# Altium integrated library ST Discrete BJT.IntLib: 9 symbols
Pins are listed as number, name and electrical type; pins without a type are passive.

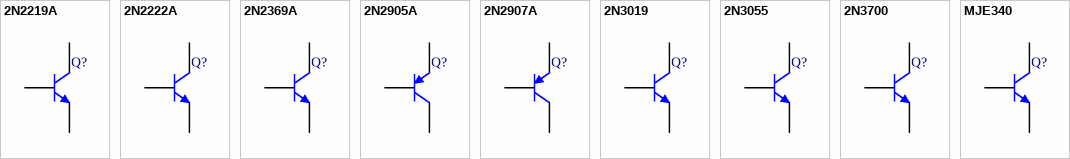
[diagram p0: symbols 2N2219A to MJE340]

## 2N2219A
designator Q?
High Speed Switches; Published: 8-Jun-2000; LatestRevisionDate: 11-Dec-2002; LatestRevisionNote: Sim Port Map correction; DatasheetDocument: Jun-1999; PackageReference: TO-39; Publisher: Altium Limited; ComponentLink1Description: Manufacturer Link; ComponentLink1URL: http://www.st.com/; ComponentLink2Description: Datasheet; ComponentLink2URL: http://www.st.com/stonline/products/literature/ds/9288/2n2219a.pdf
footprint TO-39 (Can; 3 Leads; Pin Circle Dia. 5.08 mm; Lead Dia. 0.49 mm (max))
simulation model 2N2219A (NPN)
signal-integrity model 2N2219A
pins: 1 B, 2 C, 3 E

## 2N2222A
designator Q?
High Speed Switches; Published: 8-Jun-2000; LatestRevisionDate: 11-Dec-2002; LatestRevisionNote: Sim Port Map correction; DatasheetDocument: Jun-1999; PackageReference: TO-18; Publisher: Altium Limited; ComponentLink1Description: Manufacturer Link; ComponentLink1URL: http://www.st.com/; ComponentLink2Description: Datasheet; ComponentLink2URL: http://www.st.com/stonline/products/literature/ds/9288/2n2219a.pdf
footprint TO-18 (Can; 3 Leads; Pin Circle Dia. 2.54 mm; Lead Dia. 0.49 mm (max))
simulation model 2N2222A (NPN)
signal-integrity model 2N2222A
pins: 1 B, 2 C, 3 E

## 2N2369A
designator Q?
High Speed Saturated Switch; Note: Pin number assigned in accordance with manufactures conventions.; Published: 8-Jun-2000; LatestRevisionDate: 11-Dec-2002; LatestRevisionNote: Sim Port Map correction; DatasheetDocument: Nov-1988; PackageReference: TO-18; Publisher: Altium Limited; ComponentLink1Description: Manufacturer Link; ComponentLink1URL: http://www.st.com/
footprint TO-18 (Can; 3 Leads; Pin Circle Dia. 2.54 mm; Lead Dia. 0.49 mm (max))
simulation model 2N2369A (NPN)
signal-integrity model 2N2369A
pins: 1 B, 2 C, 3 E

## 2N2905A
designator Q?
General Purpose Amplifier and Switche; Published: 8-Jun-2000; LatestRevisionDate: 11-Dec-2002; LatestRevisionNote: Sim Port Map correction; DatasheetDocument: Nov-1997; PackageReference: TO-39; Publisher: Altium Limited; ComponentLink1Description: Manufacturer Link; ComponentLink1URL: http://www.st.com/; ComponentLink2Description: Datasheet; ComponentLink2URL: http://www.st.com/stonline/products/literature/ds/9037/2n2905a.pdf
footprint TO-39 (Can; 3 Leads; Pin Circle Dia. 5.08 mm; Lead Dia. 0.49 mm (max))
simulation model 2N2905A (PNP)
signal-integrity model 2N2905A
pins: 1 B, 2 C, 3 E

## 2N2907A
designator Q?
General Purpose Amplifier and Switche; Published: 8-Jun-2000; LatestRevisionDate: 11-Dec-2002; LatestRevisionNote: Sim Port Map correction; DatasheetDocument: Nov-1997; PackageReference: TO-18; Publisher: Altium Limited; ComponentLink1Description: Manufacturer Link; ComponentLink1URL: http://www.st.com/; ComponentLink2Description: Datasheet; ComponentLink2URL: http://www.st.com/stonline/products/literature/ds/9037/2n2905a.pdf
footprint TO-18 (Can; 3 Leads; Pin Circle Dia. 2.54 mm; Lead Dia. 0.49 mm (max))
simulation model 2N2907A (PNP)
signal-integrity model 2N2907A
pins: 1 B, 2 C, 3 E

## 2N3019
designator Q?
High Current, High Frequency Amplifier; Published: 8-Jun-2000; LatestRevisionDate: 11-Dec-2002; LatestRevisionNote: Sim Port Map correction; DatasheetDocument: Nov-1997; PackageReference: TO-39; Publisher: Altium Limited; ComponentLink1Description: Manufacturer Link; ComponentLink1URL: http://www.st.com/; ComponentLink2Description: Datasheet; ComponentLink2URL: http://www.st.com/stonline/products/literature/ds/9040/2n3019.pdf
footprint TO-39 (Can; 3 Leads; Pin Circle Dia. 5.08 mm; Lead Dia. 0.49 mm (max))
simulation model 2N3019 (NPN)
signal-integrity model 2N3019
pins: 1 B, 2 C, 3 E

## 2N3055
designator Q?
Complementary Silicon Power Transistor; Note: The Tab is pin 3; Published: 8-Jun-2000; LatestRevisionDate: 11-Dec-2002; LatestRevisionNote: Sim Port Map correction; DatasheetDocument: Aug-1999; PackageReference: TO-3; Publisher: Altium Limited; ComponentLink1Description: Manufacturer Link; ComponentLink1URL: http://www.st.com/; ComponentLink2Description: Datasheet; ComponentLink2URL: http://www.st.com/stonline/products/literature/ds/4079/2n3055.pdf
footprint TO-3 (Oval Flange Mount with (2) Offset Leads; Pin Spacing 10.92 mm; Lead Dia. 1.15 mm (max))
simulation model 2N3055 (NPN)
signal-integrity model 2N3055
pins: 1 B, 2 E, 3 C

## 2N3700
designator Q?
General Purpose Amplifier; Note: Pin number assigned in accordance with manufactures conventions.; Published: 8-Jun-2000; LatestRevisionDate: 11-Dec-2002; LatestRevisionNote: Sim Port Map correction; DatasheetDocument: Jan-1989; PackageReference: TO-18; Publisher: Altium Limited; ComponentLink1Description: Manufacturer Link; ComponentLink1URL: http://www.st.com/
footprint TO-18 (Can; 3 Leads; Pin Circle Dia. 2.54 mm; Lead Dia. 0.49 mm (max))
simulation model 2N3700 (NPN)
signal-integrity model 2N3700
pins: 1 B, 2 C, 3 E

## MJE340
designator Q?
Complementary Silicon Power Transistor; Published: 8-Jun-2000; LatestRevisionDate: 11-Dec-2002; LatestRevisionNote: Sim Port Map correction; DatasheetDocument: Jun-1997; PackageDocument: Oct-1997; PackageReference: SOT32; Publisher: Altium Limited; ComponentLink1Description: Manufacturer Link; ComponentLink1URL: http://www.st.com/; ComponentLink2Description: Datasheet; ComponentLink2URL: http://www.st.com/stonline/products/literature/ds/4171/mje340.pdf
footprint SOT32 (SIP with Mounting Hole; 3 Leads; Body 10.7 x 7.6 x 2.6 mm (typ); Pitch 2.2 mm)
simulation model MJE340 (SUBCKT)
signal-integrity model MJE340
pins: 1 B, 2 C, 3 E